# EAGLE library part SBH41-NBPB-D09-SP (library con-sullins)
HEADER - Vertical, Shrouded
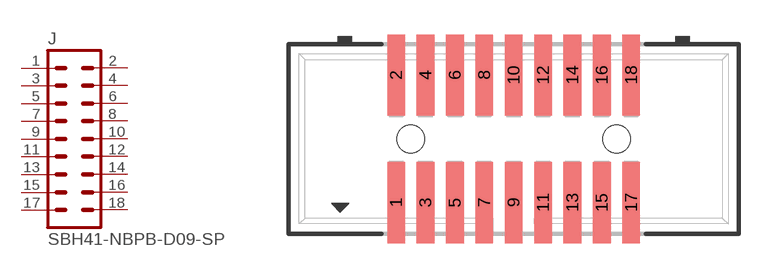
[diagram p46: symbol with the pads of SBH41-NBPB-D09-SP; footprint SBH41-NBPB-D09-SP]

Designator prefix J

## SBH41-NBPB-D09-SP  [SBH41-NBPB-D09-SP]
1  1  pas
2  2  pas
3  3  pas
4  4  pas
5  5  pas
6  6  pas
7  7  pas
8  8  pas
9  9  pas
10  10  pas
11  11  pas
12  12  pas
13  13  pas
14  14  pas
15  15  pas
16  16  pas
17  17  pas
18  18  pas

## Footprint SBH41-NBPB-D09-SP (pad centres in mm)
CONNECTOR HEADER 0.05" pitch
smd 0.762 x 3.505: 1 -5.08,-2.756; 2 -5.08,2.756; 3 -3.81,-2.756; 4 -3.81,2.756; 5 -2.54,-2.756; 6 -2.54,2.756; 7 -1.27,-2.756; 8 -1.27,2.756; 9 0,-2.756; 10 0,2.756; 11 1.27,-2.756; 12 1.27,2.756; 13 2.54,-2.756; 14 2.54,2.756; 15 3.81,-2.756; 16 3.81,2.756; 17 5.08,-2.756; 18 5.08,2.756
hole 1.194 at -4.445,0
hole 1.194 at 4.445,0